# EAGLE library part WAGO236-401/7 (library con-malina)
WAGO236-401 Modular Terminal Blocks 0.08-2.5 mm2 Pin Spacing 5 mm Rating: 500V, 16A Color item no. grey 236-401 dark grey 236-742 light grey 236-743 blue 236-744 green 236-745 orange 236-746 light green 236-747 black 236-851
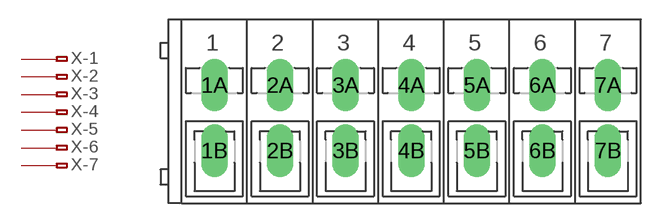
[diagram p11: symbol with the pads of WAGO236-401_7; footprint WAGO236-401_7]

Designator prefix X; gates -1=ARK2B -2=ARK2B -3=ARK2B -4=ARK2B -5=ARK2B -6=ARK2B -7=ARK2B

## WAGO236-401/7  [WAGO236-401_7]
1A  -1:1  pas
1B  -1:2  pas
2A  -2:1  pas
2B  -2:2  pas
3A  -3:1  pas
3B  -3:2  pas
4A  -4:1  pas
4B  -4:2  pas
5A  -5:1  pas
5B  -5:2  pas
6A  -6:1  pas
6B  -6:2  pas
7A  -7:1  pas
7B  -7:2  pas

## Footprint WAGO236-401_7 (pad centres in mm)
WAGO SREW CLAMP
drill 1.1 pad 2 long: 1A 0,2.5; 1B 0,-2.5; 2A 5,2.5; 2B 5,-2.5; 3A 10,2.5; 3B 10,-2.5; 4A 15,2.5; 4B 15,-2.5; 5A 20,2.5; 5B 20,-2.5; 6A 25,2.5; 6B 25,-2.5; 7A 30,2.5; 7B 30,-2.5